# Altium schematic symbol library 74LS00.SchLib: 1 symbol
Pins are listed as number, name and electrical type; pins without a type are passive.

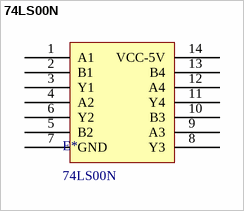
[diagram p0: symbol 74LS00N]

## 74LS00N
designator E*
Supplier 1: Mouser; Supplier Part Number 1: 595-SN74LS00NE4
footprint DIP14
pins: 1 A1, 2 B1, 3 Y1, 4 A2, 5 B2, 6 Y2, 7 GND, 8 Y3, 9 A3, 10 B3, 11 Y4, 12 A4, 13 B4, 14 VCC-5V